# Altium schematic symbol library ind_1210.SchLib: 1 symbol
Pins are listed as number, name and electrical type; pins without a type are passive.

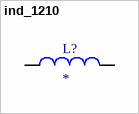
[diagram p0: symbol ind_1210]

## ind_1210
designator L?
Ind Metal Alloy Shielded 1.5uH 20% 1MHz Powdered Iron 2.6A 1210 T/R; MP: 1277AS-H-1R5M=P2; MF: {'manufacturer': u'Murata Electronics'}; Value: *; Package: None; Availability: Unavailable; Price: None
footprint INDC3225X120N
pins: 1, 2